# EAGLE library part IR2101 (library drivers)
IR2101 HIGH AND LOW SIDE DRIVER Product Summary VOFFSET 600V max. IO+/- 130 mA / 270 mA VOUT 10 - 20V ton/off (typ.) 160 & 150 ns Delay Matching 50 ns IR2101(S)/IR2102(S) & (PbF) Features ? Floating channel designed for bootstrap operation Fully operational to +600V Tolerant to negative transient voltage dV/dt immune ? Gate drive supply range from 10 to 20V ? Undervoltage lockout ? 3.3V, 5V, and 15V logic input compatible ? Matched propagation delay for both channels ? Outputs in phase with inputs (IR2101) or out of phase with inputs (IR2102) ? Also available LEAD-FREE Description The IR2101(S)/IR2102(S) are high voltage, high speed power MOSFET and IGBT drivers with independent high and low side referenced output channels. Proprietary HVIC and latch immune CMOS technologies enable ruggedized monolithic construction. The logic input is compatible with standard CMOS or LSTTL output, down to 3.3V logic. The output drivers feature a high pulse current buffer stage designed for minimum driver cross-conduction. The floating channel can be used to drive an N-channel power MOSFET or IGBT in the high side configuration which operates up to 600 volts.
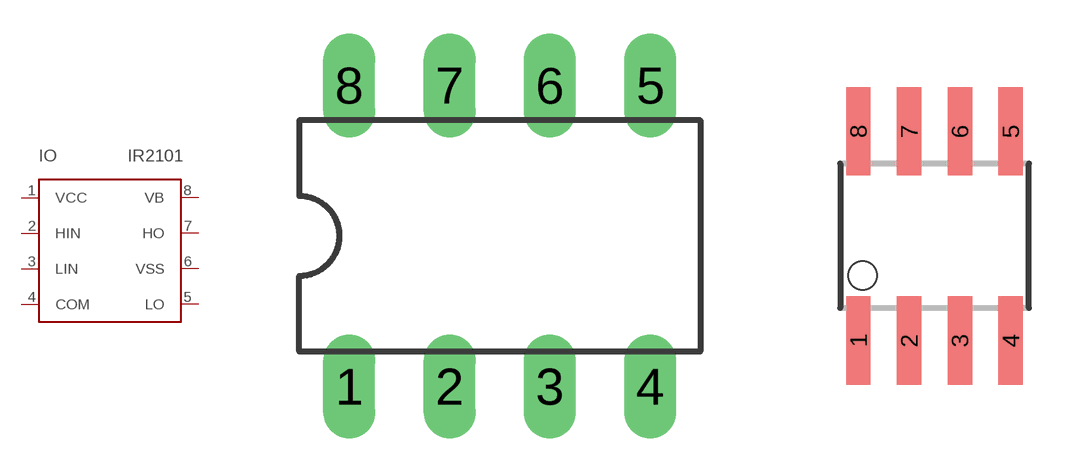
[diagram p0: symbol with the pads of DIL08; footprints DIL08, SO08]

Designator prefix IO

## IR2101  [DIL08]
1  VCC
2  HIN
3  LIN
4  COM
5  LO
6  VSS
7  HO
8  VB

## IR2101SO08 (MPN: IR2101STRPBF; OC_FARNELL: 2296000; PACKAGE: SO-08; SUPPLIER: IR)  [SO08]
Pads as for DIL08

## Footprint DIL08 (pad centres in mm)
Dual In Line Package
drill 0.813 long: 1 -3.81,-3.81; 2 -1.27,-3.81; 3 1.27,-3.81; 4 3.81,-3.81; 5 3.81,3.81; 6 1.27,3.81; 7 -1.27,3.81; 8 -3.81,3.81

## Footprint SO08 (pad centres in mm)
Small Outline Package
smd 0.61 x 2.21: 1 -1.905,-2.616; 2 -0.635,-2.616; 3 0.635,-2.616; 4 1.905,-2.616; 5 1.905,2.616; 6 0.635,2.616; 7 -0.635,2.616; 8 -1.905,2.616